# Altium footprint library LMK61A2-100M00SIAR.PcbLib: 1 footprints
Each footprint in its own frame and in the unit in brackets; x right, y up, seen from the top. Pads: shape width x height; smd on the part's side, far side on the other; paste and mask are expansions set on the pad; w line width, h text height; cw(c..) or ccw(c..) is an arc to the next point about the centre after c.
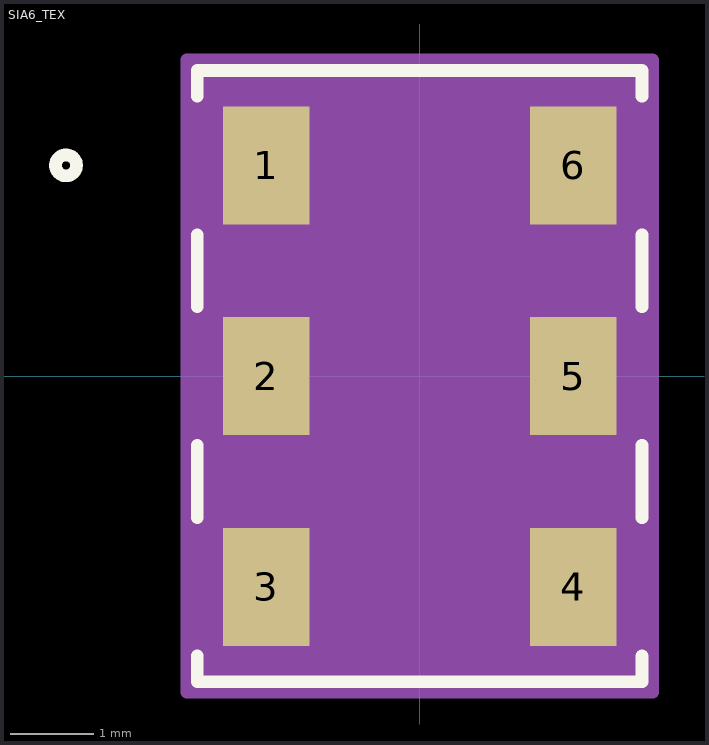
[diagram p0: the footprint, top view; thin cyan lines are the x and y axes]

## SIA6_TEX [mil]
pads (6):
  rect 41x56 smd paste+0 mask+0: 1(-72.83,100) 2(-72.83,0) 3(-72.83,-100) 4(72.83,-100) 5(72.83,0) 6(72.83,100)
Top Overlay:
  circle w6: c-167.83,100 r5
  lines w6: -105.5,-132.86 -105.5,-145 105.5,-145 105.5,-132.86 ; -105.5,-67.14 -105.5,-32.86 ; -105.5,32.86 -105.5,67.14 ; -105.5,132.86 -105.5,145 105.5,145 105.5,132.86 ; 105.5,-67.14 105.5,-32.86 ; 105.5,32.86 105.5,67.14
  text ".Designator" at -137.5,-25 h50
Mechanical 13:
  circle w1: c-52.33,100 r3
  lines w1: -12,140 ccw(c0,140) 12,140 ; -100.5,-140 100.5,-140 100.5,140 -100.5,140 -100.5,-140
  text ".Designator" at -137.5,-25 h50
Mechanical 15:
  region: -110.5,-138 -110.5,138 -110.5,150 110.5,150 110.5,138 110.5,-138 110.5,-150 -110.5,-150
  lines w6: -110.5,-138 -110.5,138 ; -110.5,-138 -110.5,-138 ; -110.5,-138 -110.5,-150 110.5,-150 110.5,-138 ; -110.5,138 -110.5,138 ; -110.5,138 -110.5,150 110.5,150 110.5,138 ; 110.5,-138 110.5,138 ; 110.5,-138 110.5,-138 ; 110.5,138 110.5,138
3D body "SIA6_TEX.step": height 45.12, standoff 0, extent -100.51,-140 100.51,140